# Altium footprint library Vertical, Single-Row, Flange Mount with Tab.PcbLib: 35 footprints (part 3 of 3)
Each footprint in its own frame and in the unit in brackets; x right, y up, seen from the top. Pads: shape width x height; smd on the part's side, far side on the other; paste and mask are expansions set on the pad; w line width, h text height; cw(c..) or ccw(c..) is an arc to the next point about the centre after c.
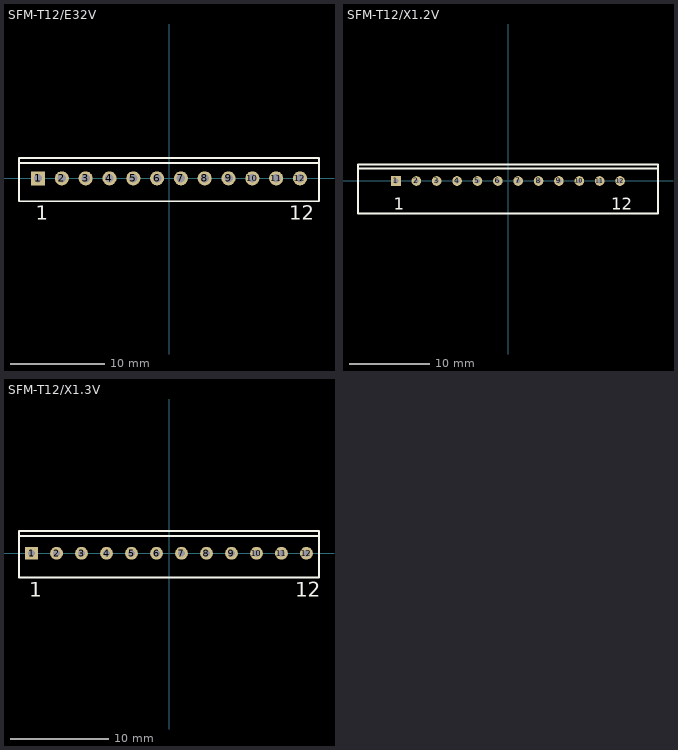
[diagram p2: the footprints below, top view; thin cyan lines are the x and y axes]

## SFM-T12/E32V [mm] "TO, Thru-Hole, Vertical, Heatsink Mounted; 12 In-Line Leads; Pitch 2.54 mm"
height 17.9
pads (12):
  rect 1.5x1.5 hole 0.9: 1(-13.97,0)
  round 1.5 hole 0.9: 2(-11.43,0) 3(-8.89,0) 4(-6.35,0) 5(-3.81,0) 6(-1.27,0) 7(1.27,0) 8(3.81,0) 9(6.35,0) 10(8.89,0) 11(11.43,0) 12(13.97,0)
Top Overlay:
  lines w0.2: -16,1.65 16,1.65 ; -16,-2.45 -16,2.15 16,2.15 16,-2.45 -16,-2.45
  text "12" at 12.845,-4.425 h1.5
  text "1" at -14.22,-4.425 h1.5

## SFM-T12/X1.2V [mm] "TO, Thru-Hole, Vertical, Heatsink Mounted; 12 In-Line Leads; Pitch 2.54 mm"
height 15.6
pads (12):
  rect 1.2x1.2 hole 0.6: 1(-13.97,0)
  round 1.2 hole 0.6: 2(-11.43,0) 3(-8.89,0) 4(-6.35,0) 5(-3.81,0) 6(-1.27,0) 7(1.27,0) 8(3.81,0) 9(6.35,0) 10(8.89,0) 11(11.43,0) 12(13.97,0)
Top Overlay:
  lines w0.2: -18.7,1.55 18.7,1.55 ; -18.7,-4.05 -18.7,2.05 18.7,2.05 18.7,-4.05 -18.7,-4.05
  text "12" at 12.845,-3.575 h1.5
  text "1" at -14.22,-3.575 h1.5

## SFM-T12/X1.3V [mm] "TO, Thru-Hole, Vertical, Heatsink Mounted; 12 In-Line Leads; Pitch 2.54 mm"
height 20.5
pads (12):
  rect 1.3x1.3 hole 0.7: 1(-13.97,0)
  round 1.3 hole 0.7: 2(-11.43,0) 3(-8.89,0) 4(-6.35,0) 5(-3.81,0) 6(-1.27,0) 7(1.27,0) 8(3.81,0) 9(6.35,0) 10(8.89,0) 11(11.43,0) 12(13.97,0)
Top Overlay:
  lines w0.2: -15.25,1.75 15.25,1.75 ; -15.25,-2.45 -15.25,2.25 15.25,2.25 15.25,-2.45 -15.25,-2.45
  text "12" at 12.845,-4.425 h1.5
  text "1" at -14.22,-4.425 h1.5